# EAGLE library part CLP-104-XX-X-DH-XX_S (library con-samtec-clp)
RECEPTACAL
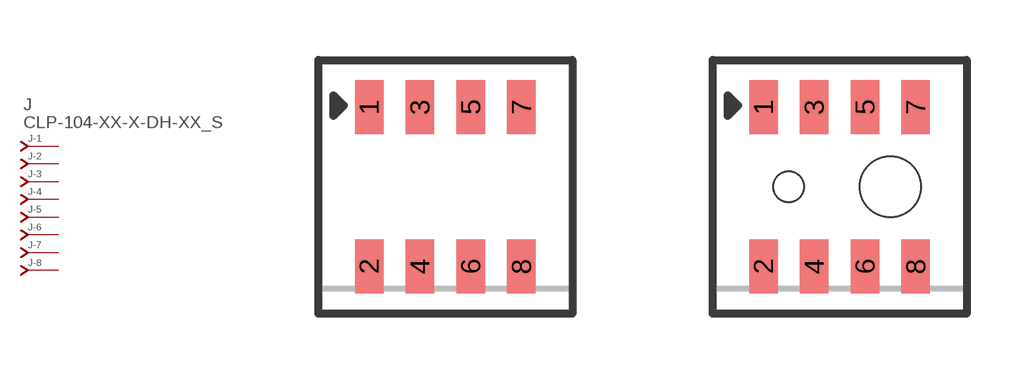
[diagram p9: symbol with the pads of CLP-104-XX-X-DH; footprints CLP-104-XX-X-DH, CLP-104-XX-X-DH-A]

Designator prefix J; gates -1=J-NV -2=J-N -3=J-N -4=J-N -5=J-N -6=J-N -7=J-N -8=J-N

## CLP-104-XX-X-DH-XX_S  [CLP-104-XX-X-DH]
1  -1:J  pas
2  -2:J  pas
3  -3:J  pas
4  -4:J  pas
5  -5:J  pas
6  -6:J  pas
7  -7:J  pas
8  -8:J  pas

## CLP-104-XX-X-DH-XX_SA  [CLP-104-XX-X-DH-A]
Pads as for CLP-104-XX-X-DH

## Footprint CLP-104-XX-X-DH (pad centres in mm)
RECEPTACAL
smd 0.711 x 1.346: 1 -1.905,1.994; 2 -1.905,-1.994; 3 -0.635,1.994; 4 -0.635,-1.994; 5 0.635,1.994; 6 0.635,-1.994; 7 1.905,1.994; 8 1.905,-1.994

## Footprint CLP-104-XX-X-DH-A (pad centres in mm)
RECEPTACAL
smd 0.711 x 1.346: 1 -1.905,1.994; 2 -1.905,-1.994; 3 -0.635,1.994; 4 -0.635,-1.994; 5 0.635,1.994; 6 0.635,-1.994; 7 1.905,1.994; 8 1.905,-1.994
hole 0.762 at -1.27,0
hole 1.524 at 1.27,0